# Altium integrated library SP1ML-868.IntLib: 1 symbol
Pins are listed as number, name and electrical type; pins without a type are passive.

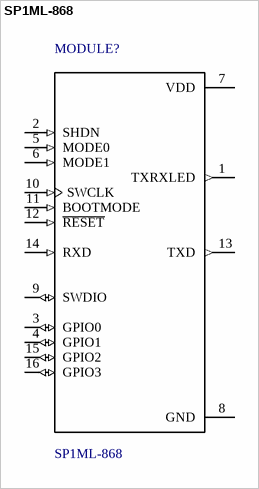
[diagram p0: symbol SP1ML-868]

## SP1ML-868
designator MODULE?
RF TXRX MODULE ISM<1GHZ CHIP ANT; MF: STMicroelectronics; Availability: Good; MP: SP1ML-868; Price: 16.88 USD; Package: SMD-16 STMicroelectronics; Value: *
footprint STM_SP1ML-868
pins: 1 TXRXLED (out), 2 SHDN (in), 3 GPIO0 (io), 4 GPIO1 (io), 5 MODE0 (in), 6 MODE1 (in), 7 VDD (power), 8 GND, 9 SWDIO (io), 10 SWCLK (in), 11 BOOTMODE (in), 12 ~{RESET} (in), 13 TXD (out), 14 RXD (in), 15 GPIO2 (io), 16 GPIO3 (io)